# Altium footprint library rohm.PCBLIB: 7 footprints
Each footprint in its own frame and in the unit in brackets; x right, y up, seen from the top. Pads: shape width x height; smd on the part's side, far side on the other; paste and mask are expansions set on the pad; w line width, h text height; cw(c..) or ccw(c..) is an arc to the next point about the centre after c.
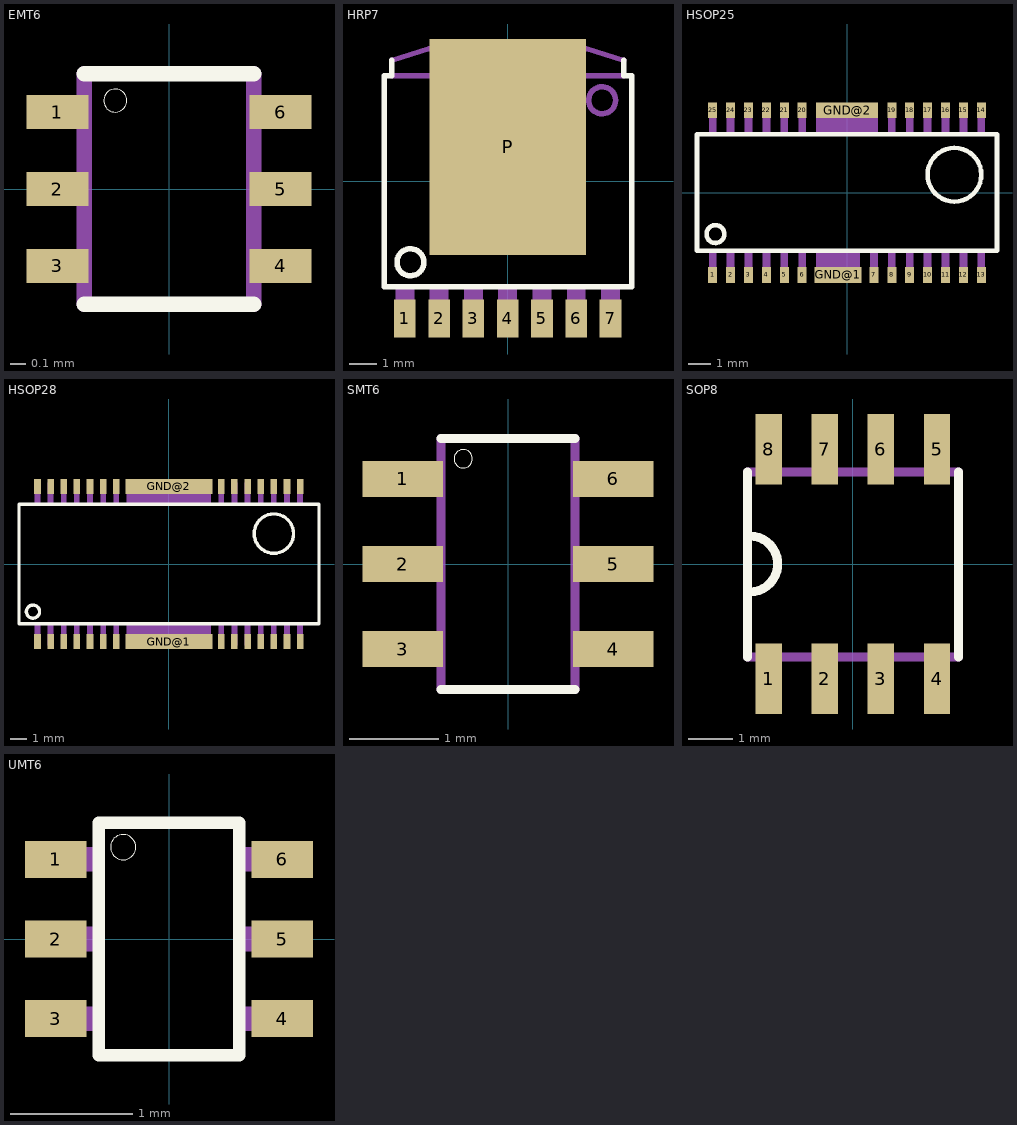
[diagram p0: the footprints below, top view; thin cyan lines are the x and y axes]

## EMT6 [mm]
pads (6):
  rect 0.4x0.22 smd: 1(-0.725,0.5) 2(-0.725,0) 3(-0.725,-0.5) 4(0.725,-0.5) 5(0.725,0) 6(0.725,0.5)
Top Overlay:
  circle w0: c-0.35,0.575 r0.075
  lines w0.102: -0.55,-0.75 0.55,-0.75 ; -0.55,0.75 0.55,0.75
Top Paste:
  rectangle: -0.9,0.4 -0.55,0.6
  rectangle: -0.9,-0.1 -0.55,0.1
  rectangle: -0.9,-0.6 -0.55,-0.4
  region: 0.9,-0.4 0.55,-0.4 0.55,-0.6 0.9,-0.6
  region: 0.9,0.1 0.55,0.1 0.55,-0.1 0.9,-0.1
  region: 0.9,0.6 0.55,0.6 0.55,0.4 0.9,0.4
Top Solder:
  rectangle: -0.975,0.35 -0.5,0.65
  rectangle: -0.975,-0.15 -0.5,0.15
  rectangle: -0.975,-0.65 -0.5,-0.35
  region: 0.975,-0.35 0.5,-0.35 0.5,-0.65 0.975,-0.65
  region: 0.975,0.15 0.5,0.15 0.5,-0.15 0.975,-0.15
  region: 0.975,0.65 0.5,0.65 0.5,0.35 0.975,0.35
Mechanical 16:
  lines w0.102: -0.55,-0.75 -0.55,0.75 ; 0.55,-0.75 0.55,0.75

## HRP7 [mil]
pads (8):
  rect 31.5x55.12 smd: 1(-150,-200) 2(-100,-200) 3(-50,-200) 4(0,-200) 5(50,-200) 6(100,-200) 7(150,-200)
  rect 228.35x314.96 smd: P(0,50)
Top Overlay:
  circle w8: c-141.73,-118.11 r19.69
  lines w8: -169.29,176.18 -169.29,153.54 -180.12,153.54 -180.12,-153.54 181.1,-153.54 181.1,153.54 169.29,153.54 169.29,176.18
Top Solder:
  rectangle: -168,-230 -132,-170
  rectangle: -118,-230 -82,-170
  rectangle: -68,-230 -32,-170
  rectangle: -18,-230 18,-170
  rectangle: 32,-230 68,-170
  rectangle: 82,-230 118,-170
  rectangle: 132,-230 168,-170
Mechanical 16:
  circle w8: c137.8,118.11 r19.69
  rectangle: -13.78,-217.52 13.78,-154.53
  rectangle: -63.78,-217.52 -36.22,-154.53
  rectangle: -113.78,-217.52 -86.22,-154.53
  rectangle: -163.78,-217.52 -136.22,-154.53
  rectangle: 36.22,-217.52 63.78,-154.53
  rectangle: 86.22,-217.52 113.78,-154.53
  rectangle: 136.22,-217.52 163.78,-154.53
  lines w8: -169.29,153.54 169.29,153.54 ; -169.29,176.18 -114.17,193.58 114.17,193.58 169.29,176.18

## HSOP25 [mm]
pads (27):
  rect 0.4x0.7 smd: 1(-6,-3.675) 2(-5.2,-3.675) 3(-4.4,-3.675) 4(-3.6,-3.675) 5(-2.8,-3.675) 6(-2,-3.675) 7(1.2,-3.675) 8(2,-3.675) 9(2.8,-3.675) 10(3.6,-3.675) 11(4.4,-3.675) 12(5.2,-3.675) 13(6,-3.675) 14(6,3.675) 15(5.2,3.675) 16(4.4,3.675) 17(3.6,3.675) 18(2.8,3.675) 19(2,3.675) 20(-2,3.675) 21(-2.8,3.675) 22(-3.6,3.675) 23(-4.4,3.675) 24(-5.2,3.675) 25(-6,3.675)
  rect 2.1x0.7 smd: GND@1(-0.4,-3.675)
  rect 2.75x0.7 smd: GND@2(0,3.675)
Top Overlay:
  circle w0.203: c-5.875,-1.85 r0.4
  circle w0.203: c4.8,0.8 r1.2
  lines w0.203: -6.7,-2.6 6.7,-2.6 6.7,2.6 -6.7,2.6 -6.7,-2.6
Top Solder:
  rectangle: -6.25,-4.075 -5.75,-3.275
  rectangle: -5.45,-4.075 -4.95,-3.275
  rectangle: -4.65,-4.075 -4.15,-3.275
  rectangle: -3.85,-4.075 -3.35,-3.275
  rectangle: -3.05,-4.075 -2.55,-3.275
  rectangle: -2.25,-4.075 -1.75,-3.275
  rectangle: 0.95,-4.075 1.45,-3.275
  rectangle: 1.75,-4.075 2.25,-3.275
  rectangle: 2.55,-4.075 3.05,-3.275
  rectangle: 3.35,-4.075 3.85,-3.275
  rectangle: 4.15,-4.075 4.65,-3.275
  rectangle: 4.95,-4.075 5.45,-3.275
  rectangle: 5.75,-4.075 6.25,-3.275
  region: 6.25,4.075 5.75,4.075 5.75,3.275 6.25,3.275
  region: 5.45,4.075 4.95,4.075 4.95,3.275 5.45,3.275
  region: 4.65,4.075 4.15,4.075 4.15,3.275 4.65,3.275
  region: 3.85,4.075 3.35,4.075 3.35,3.275 3.85,3.275
  region: 3.05,4.075 2.55,4.075 2.55,3.275 3.05,3.275
  region: 2.25,4.075 1.75,4.075 1.75,3.275 2.25,3.275
  region: -1.75,4.075 -2.25,4.075 -2.25,3.275 -1.75,3.275
  region: -2.55,4.075 -3.05,4.075 -3.05,3.275 -2.55,3.275
  region: -3.35,4.075 -3.85,4.075 -3.85,3.275 -3.35,3.275
  region: -4.15,4.075 -4.65,4.075 -4.65,3.275 -4.15,3.275
  region: -4.95,4.075 -5.45,4.075 -5.45,3.275 -4.95,3.275
  region: -5.75,4.075 -6.25,4.075 -6.25,3.275 -5.75,3.275
  region: 6.25,4.075 5.75,4.075 5.75,3.275 6.25,3.275
  region: 5.45,4.075 4.95,4.075 4.95,3.275 5.45,3.275
  region: 4.65,4.075 4.15,4.075 4.15,3.275 4.65,3.275
  region: 3.85,4.075 3.35,4.075 3.35,3.275 3.85,3.275
  region: 3.05,4.075 2.55,4.075 2.55,3.275 3.05,3.275
  region: 2.25,4.075 1.75,4.075 1.75,3.275 2.25,3.275
  region: 1.425,4.075 -1.425,4.075 -1.425,3.275 1.425,3.275
  region: -1.75,4.075 -2.25,4.075 -2.25,3.275 -1.75,3.275
  region: -2.55,4.075 -3.05,4.075 -3.05,3.275 -2.55,3.275
  region: -3.35,4.075 -3.85,4.075 -3.85,3.275 -3.35,3.275
  region: -4.15,4.075 -4.65,4.075 -4.65,3.275 -4.15,3.275
  region: -4.95,4.075 -5.45,4.075 -5.45,3.275 -4.95,3.275
  region: -5.75,4.075 -6.25,4.075 -6.25,3.275 -5.75,3.275
  rectangle: -1.5,-4.075 0.7,-3.275
Mechanical 16:
  rectangle: -6.175,-3.9 -5.825,-2.675
  rectangle: -5.375,-3.9 -5.025,-2.675
  rectangle: -4.575,-3.9 -4.225,-2.675
  rectangle: -3.775,-3.9 -3.425,-2.675
  rectangle: -2.975,-3.9 -2.625,-2.675
  rectangle: -2.175,-3.9 -1.825,-2.675
  rectangle: -1.375,-3.9 0.575,-2.675
  rectangle: 1.025,-3.9 1.375,-2.675
  rectangle: 1.825,-3.9 2.175,-2.675
  rectangle: 2.625,-3.9 2.975,-2.675
  rectangle: 3.425,-3.9 3.775,-2.675
  rectangle: 4.225,-3.9 4.575,-2.675
  rectangle: 5.025,-3.9 5.375,-2.675
  rectangle: 5.825,-3.9 6.175,-2.675
  region: 6.175,3.9 5.825,3.9 5.825,2.675 6.175,2.675
  region: 5.375,3.9 5.025,3.9 5.025,2.675 5.375,2.675
  region: 4.575,3.9 4.225,3.9 4.225,2.675 4.575,2.675
  region: 3.775,3.9 3.425,3.9 3.425,2.675 3.775,2.675
  region: 2.975,3.9 2.625,3.9 2.625,2.675 2.975,2.675
  region: 2.175,3.9 1.825,3.9 1.825,2.675 2.175,2.675
  region: 1.375,3.9 -1.375,3.9 -1.375,2.675 1.375,2.675
  region: -1.825,3.9 -2.175,3.9 -2.175,2.675 -1.825,2.675
  region: -2.625,3.9 -2.975,3.9 -2.975,2.675 -2.625,2.675
  region: -3.425,3.9 -3.775,3.9 -3.775,2.675 -3.425,2.675
  region: -4.225,3.9 -4.575,3.9 -4.575,2.675 -4.225,2.675
  region: -5.025,3.9 -5.375,3.9 -5.375,2.675 -5.025,2.675
  region: -5.825,3.9 -6.175,3.9 -6.175,2.675 -5.825,2.675

## HSOP28 [mm]
pads (30):
  rect 0.4x0.9 smd: 1(-8,-4.725) 2(-7.2,-4.725) 3(-6.4,-4.725) 4(-5.6,-4.725) 5(-4.8,-4.725) 6(-4,-4.725) 7(-3.2,-4.725) 8(3.2,-4.725) 9(4,-4.725) 10(4.8,-4.725) 11(5.6,-4.725) 12(6.4,-4.725) 13(7.2,-4.725) 14(8,-4.725) 15(8,4.725) 16(7.2,4.725) 17(6.4,4.725) 18(5.6,4.725) 19(4.8,4.725) 20(4,4.725) 21(3.2,4.725) 22(-3.2,4.725) 23(-4,4.725) 24(-4.8,4.725) 25(-5.6,4.725) 26(-6.4,4.725) 27(-7.2,4.725) 28(-8,4.725)
  rect 5.3x0.9 smd: GND@1(0,-4.725) GND@2(0,4.725)
Top Overlay:
  circle w0.203: c-8.275,-2.9 r0.4
  circle w0.203: c6.4,1.85 r1.2
  lines w0.203: -9.125,-3.65 9.15,-3.65 9.15,3.65 -9.125,3.65 -9.125,-3.65
Top Solder:
  rectangle: -8.25,-5.225 -7.75,-4.225
  rectangle: -2.7,-5.225 2.7,-4.225
  rectangle: -7.45,-5.225 -6.95,-4.225
  rectangle: -6.65,-5.225 -6.15,-4.225
  rectangle: -5.85,-5.225 -5.35,-4.225
  rectangle: -5.05,-5.225 -4.55,-4.225
  rectangle: -4.25,-5.225 -3.75,-4.225
  rectangle: -3.45,-5.225 -2.95,-4.225
  rectangle: 2.95,-5.225 3.45,-4.225
  rectangle: 3.75,-5.225 4.25,-4.225
  rectangle: 4.55,-5.225 5.05,-4.225
  rectangle: 5.35,-5.225 5.85,-4.225
  rectangle: 6.15,-5.225 6.65,-4.225
  rectangle: 6.95,-5.225 7.45,-4.225
  rectangle: 7.75,-5.225 8.25,-4.225
  region: 8.25,5.225 7.75,5.225 7.75,4.225 8.25,4.225
  region: 2.7,5.225 -2.7,5.225 -2.7,4.225 2.7,4.225
  region: 7.45,5.225 6.95,5.225 6.95,4.225 7.45,4.225
  region: 6.65,5.225 6.15,5.225 6.15,4.225 6.65,4.225
  region: 5.85,5.225 5.35,5.225 5.35,4.225 5.85,4.225
  region: 5.05,5.225 4.55,5.225 4.55,4.225 5.05,4.225
  region: 4.25,5.225 3.75,5.225 3.75,4.225 4.25,4.225
  region: 3.45,5.225 2.95,5.225 2.95,4.225 3.45,4.225
  region: -2.95,5.225 -3.45,5.225 -3.45,4.225 -2.95,4.225
  region: -3.75,5.225 -4.25,5.225 -4.25,4.225 -3.75,4.225
  region: -4.55,5.225 -5.05,5.225 -5.05,4.225 -4.55,4.225
  region: -5.35,5.225 -5.85,5.225 -5.85,4.225 -5.35,4.225
  region: -6.15,5.225 -6.65,5.225 -6.65,4.225 -6.15,4.225
  region: -6.95,5.225 -7.45,5.225 -7.45,4.225 -6.95,4.225
  region: -7.75,5.225 -8.25,5.225 -8.25,4.225 -7.75,4.225
Mechanical 16:
  rectangle: -8.175,-4.95 -7.825,-3.725
  rectangle: -7.375,-4.95 -7.025,-3.725
  rectangle: -6.575,-4.95 -6.225,-3.725
  rectangle: -5.775,-4.95 -5.425,-3.725
  rectangle: -4.975,-4.95 -4.625,-3.725
  rectangle: -4.175,-4.95 -3.825,-3.725
  rectangle: -2.575,-4.95 2.575,-3.725
  rectangle: -3.375,-4.95 -3.025,-3.725
  rectangle: 3.025,-4.95 3.375,-3.725
  rectangle: 3.825,-4.95 4.175,-3.725
  rectangle: 4.625,-4.95 4.975,-3.725
  rectangle: 5.425,-4.95 5.775,-3.725
  rectangle: 6.225,-4.95 6.575,-3.725
  rectangle: 7.025,-4.95 7.375,-3.725
  rectangle: 7.825,-4.95 8.175,-3.725
  region: 8.175,4.95 7.825,4.95 7.825,3.725 8.175,3.725
  region: 7.375,4.95 7.025,4.95 7.025,3.725 7.375,3.725
  region: 6.575,4.95 6.225,4.95 6.225,3.725 6.575,3.725
  region: 5.775,4.95 5.425,4.95 5.425,3.725 5.775,3.725
  region: 4.975,4.95 4.625,4.95 4.625,3.725 4.975,3.725
  region: 4.175,4.95 3.825,4.95 3.825,3.725 4.175,3.725
  region: 2.575,4.95 -2.575,4.95 -2.575,3.725 2.575,3.725
  region: 3.375,4.95 3.025,4.95 3.025,3.725 3.375,3.725
  region: -3.025,4.95 -3.375,4.95 -3.375,3.725 -3.025,3.725
  region: -3.825,4.95 -4.175,4.95 -4.175,3.725 -3.825,3.725
  region: -4.625,4.95 -4.975,4.95 -4.975,3.725 -4.625,3.725
  region: -5.425,4.95 -5.775,4.95 -5.775,3.725 -5.425,3.725
  region: -6.225,4.95 -6.575,4.95 -6.575,3.725 -6.225,3.725
  region: -7.025,4.95 -7.375,4.95 -7.375,3.725 -7.025,3.725
  region: -7.825,4.95 -8.175,4.95 -8.175,3.725 -7.825,3.725

## SMT6 [mm]
pads (6):
  rect 0.9x0.4 smd: 1(-1.175,0.95) 2(-1.175,0) 3(-1.175,-0.95) 4(1.175,-0.95) 5(1.175,0) 6(1.175,0.95)
Top Overlay:
  circle w0: c-0.5,1.175 r0.103
  lines w0.102: -0.75,-1.4 0.75,-1.4 ; -0.75,1.4 0.75,1.4
Top Paste:
  rectangle: -1.6,0.775 -0.75,1.125
  rectangle: -1.6,-0.175 -0.75,0.175
  rectangle: -1.6,-1.125 -0.75,-0.775
  region: 1.6,-0.775 0.75,-0.775 0.75,-1.125 1.6,-1.125
  region: 1.6,0.175 0.75,0.175 0.75,-0.175 1.6,-0.175
  region: 1.6,1.125 0.75,1.125 0.75,0.775 1.6,0.775
Top Solder:
  rectangle: -1.675,0.7 -0.675,1.2
  rectangle: -1.675,-0.25 -0.675,0.25
  rectangle: -1.675,-1.2 -0.675,-0.7
  region: 1.675,-0.7 0.675,-0.7 0.675,-1.2 1.675,-1.2
  region: 1.675,0.25 0.675,0.25 0.675,-0.25 1.675,-0.25
  region: 1.675,1.2 0.675,1.2 0.675,0.7 1.675,0.7
Mechanical 16:
  rectangle: -1.4,0.8 -0.775,1.1
  rectangle: -1.4,-0.15 -0.775,0.15
  rectangle: -1.4,-1.1 -0.775,-0.8
  region: 1.4,-0.8 0.775,-0.8 0.775,-1.1 1.4,-1.1
  region: 1.4,0.15 0.775,0.15 0.775,-0.15 1.4,-0.15
  region: 1.4,1.1 0.775,1.1 0.775,0.8 1.4,0.8
  lines w0.102: -0.75,-1.4 -0.75,1.4 ; 0.75,-1.4 0.75,1.4

## SOP8 [mm]
pads (8):
  rect 0.6x1.6 smd: 1(-1.905,-2.6) 2(-0.635,-2.6) 3(0.635,-2.6) 4(1.905,-2.6) 5(1.905,2.6) 6(0.635,2.6) 7(-0.635,2.6) 8(-1.905,2.6)
Top Overlay:
  lines w0.203: -2.395,-2.11 -2.395,2.085 ; -2.34,-0.635 ccw(c-2.34,0) -2.34,0.635 ; 2.395,-2.11 2.395,2.085
Mechanical 16:
  rectangle: -2.155,-3.1 -1.655,-2.2
  rectangle: -0.885,-3.1 -0.385,-2.2
  rectangle: 0.385,-3.1 0.885,-2.2
  rectangle: 1.655,-3.1 2.155,-2.2
  rectangle: 1.655,2.2 2.155,3.1
  rectangle: 0.385,2.2 0.885,3.1
  rectangle: -0.885,2.2 -0.385,3.1
  rectangle: -2.155,2.2 -1.655,3.1
  lines w0.203: -2.395,-2.11 2.395,-2.11 ; -2.395,2.085 2.395,2.085

## UMT6 [mm]
pads (6):
  rect 0.5x0.3 smd: 1(-0.925,0.65) 2(-0.925,0) 3(-0.925,-0.65) 4(0.925,-0.65) 5(0.925,0) 6(0.925,0.65)
Top Overlay:
  circle w0: c-0.375,0.75 r0.103
  lines w0.102: -0.575,-0.95 0.575,-0.95 0.575,0.95 -0.575,0.95 -0.575,-0.95
Top Paste:
  rectangle: -1.15,0.525 -0.7,0.775
  rectangle: -1.15,-0.125 -0.7,0.125
  rectangle: -1.15,-0.775 -0.7,-0.525
  region: 1.15,-0.525 0.7,-0.525 0.7,-0.775 1.15,-0.775
  region: 1.15,0.125 0.7,0.125 0.7,-0.125 1.15,-0.125
  region: 1.15,0.775 0.7,0.775 0.7,0.525 1.15,0.525
Top Solder:
  rectangle: -1.225,0.45 -0.6,0.85
  rectangle: -1.225,-0.2 -0.6,0.2
  rectangle: -1.225,-0.85 -0.6,-0.45
  region: 1.225,-0.45 0.6,-0.45 0.6,-0.85 1.225,-0.85
  region: 1.225,0.2 0.6,0.2 0.6,-0.2 1.225,-0.2
  region: 1.225,0.85 0.6,0.85 0.6,0.45 1.225,0.45
Mechanical 16:
  rectangle: -1.05,0.55 -0.575,0.75
  rectangle: -1.05,-0.1 -0.575,0.1
  rectangle: -1.05,-0.75 -0.575,-0.55
  region: 1.05,-0.55 0.575,-0.55 0.575,-0.75 1.05,-0.75
  region: 1.05,0.1 0.575,0.1 0.575,-0.1 1.05,-0.1
  region: 1.05,0.75 0.575,0.75 0.575,0.55 1.05,0.55